# Altium schematic symbol library Schematiclib.SchLib: 91 symbols
Pins are listed as number, name and electrical type; pins without a type are passive.

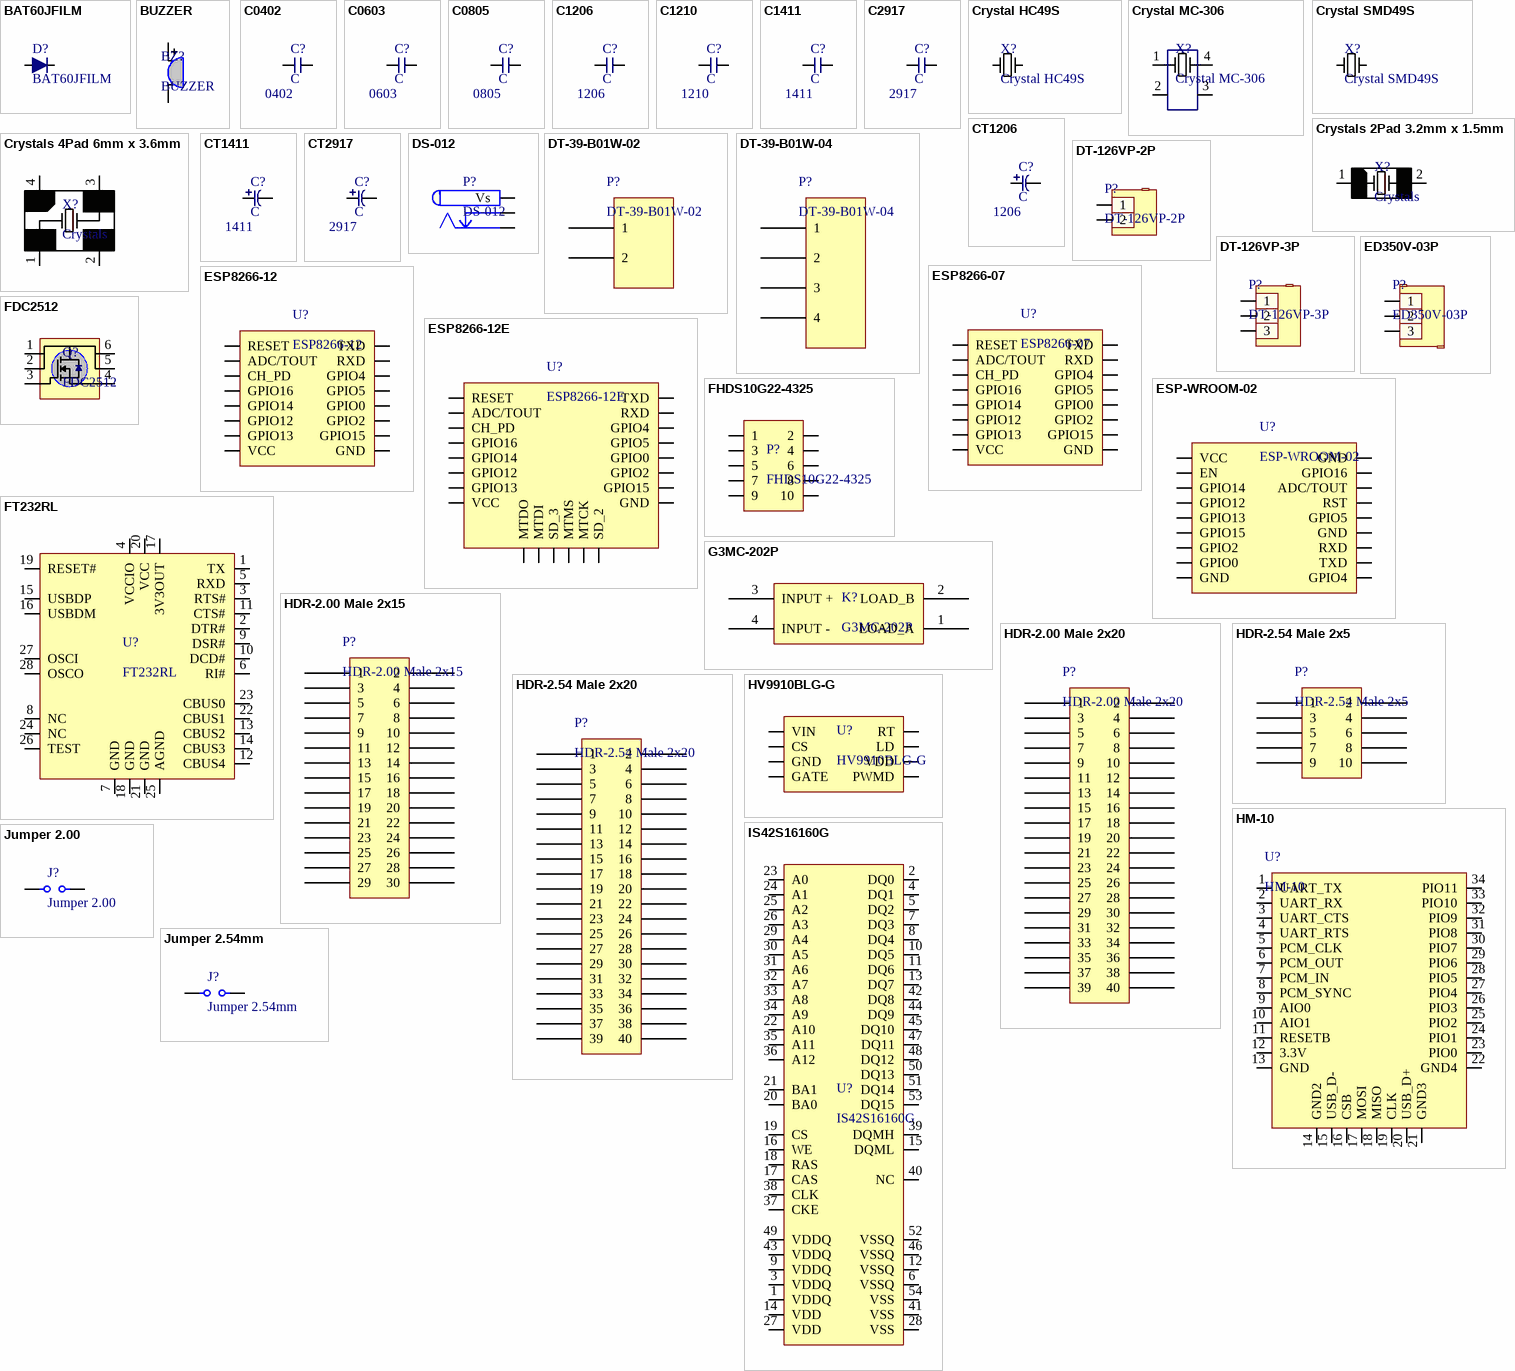
[diagram p0: symbols BAT60JFILM to Jumper 2.54mm]

## BAT60JFILM
designator D?
footprint SOD323
pins: 1, 2

## BUZZER
designator BZ?
footprint BUZZER
pins: 1, 2

## C0402
designator C?, comment C
footprint Chip 0402C
pins: 1, 2
text: 0402

## C0603
designator C?, comment C
footprint Chip 0603C
pins: 1, 2
text: 0603

## C0805
designator C?, comment C
footprint Chip 0805C
pins: 1, 2
text: 0805

## C1206
designator C?, comment C
footprint Chip 1206C
pins: 1, 2
text: 1206

## C1210
designator C?, comment C
footprint Chip 1210C
pins: 1, 2
text: 1210

## C1411
designator C?, comment C
footprint Chip 1411
pins: 1, 2
text: 1411

## C2917
designator C?, comment C
footprint Chip 2917
pins: 1, 2
text: 2917

## Crystal HC49S
designator X?
footprint HC-49S
pins: 1, 2

## Crystal MC-306
designator X?
footprint MC-306
pins: 1, 2, 3, 4

## Crystal SMD49S
designator X?
footprint SMD-49S
pins: 1, 2

## Crystals 2Pad 3.2mm x 1.5mm
designator X?, comment Crystals
Crystals 2 Pad 3.2mm x 1.5mm
footprint 2P3.2mmx1.5mm (Crystals 2Pad 3.2mm x 1.5mm)
pins: 1, 2

## Crystals 4Pad 6mm x 3.6mm
designator X?, comment Crystals
Crystals 4 Pad 6mm x 3.6mm
footprint 4P6mmx3.6mm (Crystals 4Pad 6mm x 3.6mm)
pins: 1, 2, 3, 4

## CT1206
designator C?, comment C
footprint Chip Tan 1206
pins: 1, 2
text: 1206

## CT1411
designator C?, comment C
footprint Chip Tan 1411
pins: 1, 2
text: 1411

## CT2917
designator C?, comment C
footprint Chip Tan 2917
pins: 1, 2
text: 2917

## DS-012
designator P?
DC Jack
footprint DS-012
pins: 0 Vs, 1 GND 1, 2 GND 2

## DT-39-B01W-02
designator P?
Terminal Block Barrier Type 2Pins,  8.25mm, 20A
footprint DT-39-B01W-02
pins: 1, 2

## DT-39-B01W-04
designator P?
Terminal Block Barrier Type 4Pins,  8.25mm, 20A
footprint DT-39-B01W-04
pins: 1, 2, 3, 4

## DT-126VP-2P
designator P?
Screw terminal block 2 Pin, 5.00mm, 8A, 300V
footprint DT-126VP-2P
pins: 1, 2

## DT-126VP-3P
designator P?
Screw terminal block 3 Pin, 5.00mm, 8A, 300V
footprint DT-126VP-3P
pins: 1, 2, 3

## ED350V-03P
designator P?
Terminal Block 3 Pins 3.50mm Mini PCB 300V/10A
footprint ED350V-03P (Terminal Block 3 Pins Mini PCB 300V/10A Wire protector)
pins: 1, 2, 3

## ESP8266-07
designator U?
footprint ESP8266-07
pins: 1 RESET, 2 ADC/TOUT, 3 CH_PD, 4 GPIO16, 5 GPIO14, 6 GPIO12, 7 GPIO13, 8 VCC, 9 GND, 10 GPIO15, 11 GPIO2, 12 GPIO0, 13 GPIO5, 14 GPIO4, 15 RXD, 16 TXD

## ESP8266-12
designator U?
footprint ESP8266-12
pins: 1 RESET, 2 ADC/TOUT, 3 CH_PD, 4 GPIO16, 5 GPIO14, 6 GPIO12, 7 GPIO13, 8 VCC, 9 GND, 10 GPIO15, 11 GPIO2, 12 GPIO0, 13 GPIO5, 14 GPIO4, 15 RXD, 16 TXD

## ESP8266-12E
designator U?
footprint ESP8266-12E
pins: 1 RESET, 2 ADC/TOUT, 3 CH_PD, 4 GPIO16, 5 GPIO14, 6 GPIO12, 7 GPIO13, 8 VCC, 9 GND, 10 GPIO15, 11 GPIO2, 12 GPIO0, 13 GPIO5, 14 GPIO4, 15 RXD, 16 TXD, 17 MTDO, 18 MTDI, 19 SD_3, 20 MTMS, 21 MTCK, 22 SD_2

## ESP-WROOM-02
designator U?
footprint ESP-WROOM-02
pins: 1 VCC, 2 EN, 3 GPIO14, 4 GPIO12, 5 GPIO13, 6 GPIO15, 7 GPIO2, 8 GPIO0, 9 GND, 10 GPIO4, 11 TXD, 12 RXD, 13 GND, 14 GPIO5, 15 RST, 16 ADC/TOUT, 17 GPIO16, 18 GND

## FDC2512
designator Q?
footprint SOT-6
pins: 1 B, 2 C, 3 E, 4, 5, 6

## FHDS10G22-4325
designator P?
Female Header, 2x5 Pin, Straight, 2.00mm
footprint FHDS10G22-4325 (2.00mm 2x5 PINS, FEMALE)
pins: 1, 2, 3, 4, 5, 6, 7, 8, 9, 10

## FT232RL
designator U?
footprint SSOP-28
pins: 1 TX, 2 DTR#, 3 RTS#, 4 VCCIO, 5 RXD, 6 RI#, 7 GND, 8 NC, 9 DSR#, 10 DCD#, 11 CTS#, 12 CBUS4, 13 CBUS2, 14 CBUS3, 15 USBDP, 16 USBDM, 17 3V3OUT, 18 GND, 19 RESET#, 20 VCC, 21 GND, 22 CBUS1, 23 CBUS0, 24 NC, 25 AGND, 26 TEST, 27 OSCI, 28 OSCO

## G3MC-202P
designator K?
G3MC-202P Solid State Relay, Phototriac Isolation, 100 to 240 VAC, 50/60 Hz, 0.1 to 2 A; Vendor: OMRON
footprint G3MC-202P
pins: 1 LOAD_A, 2 LOAD_B, 3 INPUT +, 4 INPUT -

## HDR-2.00 Male 2x15
designator P?
HDR 2.00mm Male 2x15
footprint HDR-2.00 Male 2x15
footprint HDR-2.00 Male 2x15 B
pins: 1, 2, 3, 4, 5, 6, 7, 8, 9, 10, 11, 12, 13, 14, 15, 16, 17, 18, 19, 20, 21, 22, 23, 24, 25, 26, 27, 28, 29, 30

## HDR-2.00 Male 2x20
designator P?
HDR 2.00mm Male 2x20
footprint HDR-2.00 Male 2x20
footprint HDR-2.00 Male 2x20 B
pins: 1, 2, 3, 4, 5, 6, 7, 8, 9, 10, 11, 12, 13, 14, 15, 16, 17, 18, 19, 20, 21, 22, 23, 24, 25, 26, 27, 28, 29, 30, 31, 32, 33, 34, 35, 36, 37, 38, 39, 40

## HDR-2.54 Male 2x5
designator P?
DUAL ROW STRAIGHT TYPE 2*5 PINS
footprint HDR-2.54 Male 2x5
pins: 1, 2, 3, 4, 5, 6, 7, 8, 9, 10

## HDR-2.54 Male 2x20
designator P?
DUAL ROW STRAIGHT TYPE 2*20 PINS
footprint HDR-2.54 Male 2x20
pins: 1, 2, 3, 4, 5, 6, 7, 8, 9, 10, 11, 12, 13, 14, 15, 16, 17, 18, 19, 20, 21, 22, 23, 24, 25, 26, 27, 28, 29, 30, 31, 32, 33, 34, 35, 36, 37, 38, 39, 40

## HM-10
designator U?
Bluetooth V4.0 HM-10 BLE Module
footprint HM-10
pins: 1 UART_TX, 2 UART_RX, 3 UART_CTS, 4 UART_RTS, 5 PCM_CLK, 6 PCM_OUT, 7 PCM_IN, 8 PCM_SYNC, 9 AIO0, 10 AIO1, 11 RESETB, 12 3.3V, 13 GND, 14 GND2, 15 USB_D-, 16 CSB, 17 MOSI, 18 MISO, 19 CLK, 20 USB_D+, 21 GND3, 22 GND4, 23 PIO0, 24 PIO1, 25 PIO2, 26 PIO3, 27 PIO4, 28 PIO5, 29 PIO6, 30 PIO7, 31 PIO8, 32 PIO9, 33 PIO10, 34 PIO11

## HV9910BLG-G
designator U?
Universal High Brightness LED Driver
footprint 8-Lead SOIC
pins: 1 VIN, 2 CS, 3 GND, 4 GATE, 5 PWMD, 6 VDD, 7 LD, 8 RT

## IS42S16160G
designator U?
4M x16x4 Banks, 256Mb Synchronous DRAM
footprint TSOP-2
pins: 1 VDDQ, 2 DQ0, 3 VDDQ, 4 DQ1, 5 DQ2, 6 VSSQ, 7 DQ3, 8 DQ4, 9 VDDQ, 10 DQ5, 11 DQ6, 12 VSSQ, 13 DQ7, 14 VDD, 15 DQML, 16 WE, 17 CAS, 18 RAS, 19 CS, 20 BA0, 21 BA1, 22 A10, 23 A0, 24 A1, 25 A2, 26 A3, 27 VDD, 28 VSS, 29 A4, 30 A5, 31 A6, 32 A7, 33 A8, 34 A9, 35 A11, 36 A12, 37 CKE, 38 CLK, 39 DQMH, 40 NC, 41 VSS, 42 DQ8, 43 VDDQ, 44 DQ9, 45 DQ10, 46 VSSQ, 47 DQ11, 48 DQ12, 49 VDDQ, 50 DQ13, 51 DQ14, 52 VSSQ, 53 DQ15, 54 VSS

## Jumper 2.00
designator J?
Jumper 2.54mm
footprint HDR-2.00 Male 1x2
pins: 1, 2

## Jumper 2.54mm
designator J?
footprint HDR-2.54 Male 1x2
pins: 1, 2

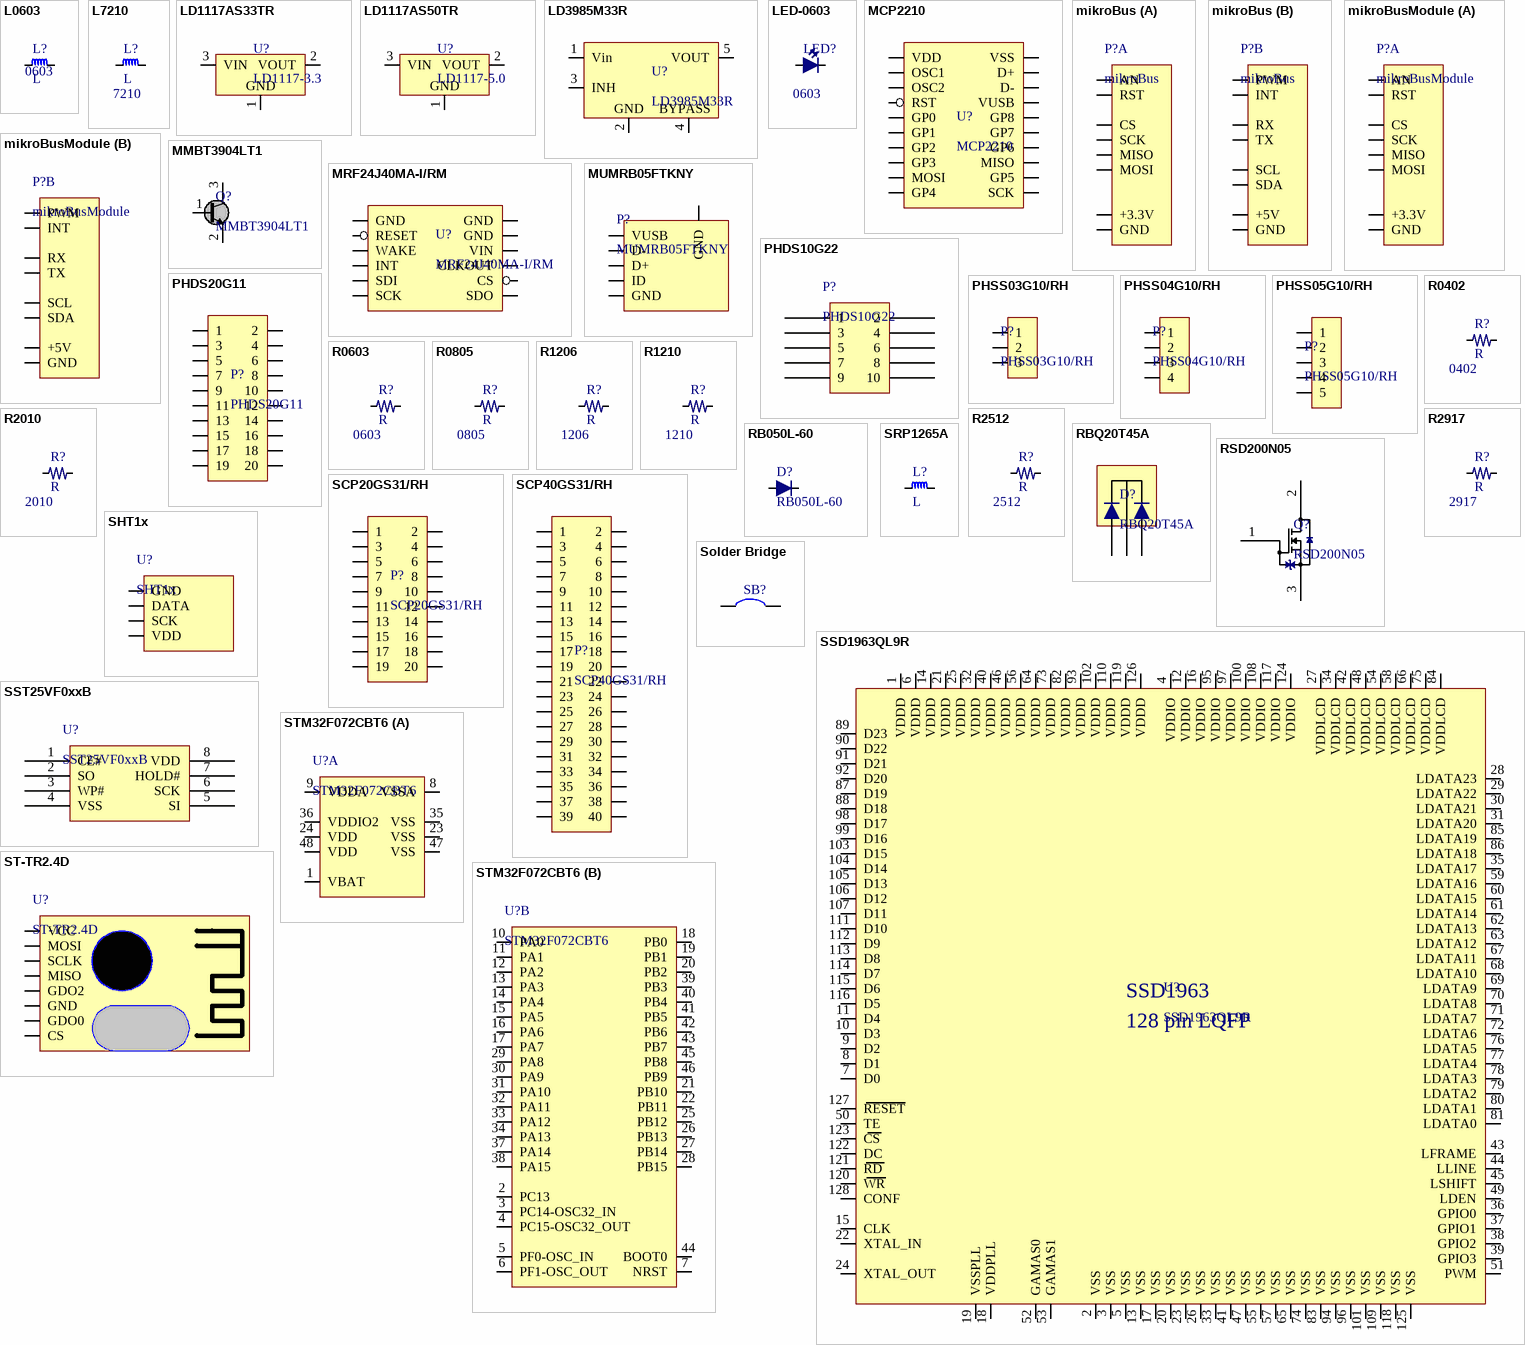
[diagram p1: symbols L0603 to STM32F072CBT6]

## L0603
designator L?, comment L
Chip Inductors
footprint Chip 0603
pins: 1, 2
text: 0603

## L7210
designator L?, comment L
HIGH POWER INDUCTOR
footprint L7210
pins: 1, 2
text: 7210

## LD1117AS33TR
designator U?, comment LD1117-3.3
Positive Fixed Voltage Regulator LDO 3.3V/1A
footprint SOT-223
pins: 1 GND, 2 VOUT, 3 VIN

## LD1117AS50TR
designator U?, comment LD1117-5.0
Positive Fixed Voltage Regulator LDO 5.0V/1A
footprint SOT-223
pins: 1 GND, 2 VOUT, 3 VIN

## LD3985M33R
designator U?
footprint SOT23-5L
pins: 1 Vin, 2 GND, 3 INH, 4 BYPASS, 5 VOUT

## LED-0603
designator LED?, comment LED  (value not drawn)
footprint CHIP LED 0603
pins: 1, 2
text: 0603

## MCP2210
designator U?
footprint 20-Lead SOIC
footprint 20-Lead SSOP
pins: 1 VDD, 2 OSC1, 3 OSC2, 4 RST, 5 GP0, 6 GP1, 7 GP2, 8 GP3, 9 MOSI, 10 GP4, 11 SCK, 12 GP5, 13 MISO, 14 GP6, 15 GP7, 16 GP8, 17 VUSB, 18 D-, 19 D+, 20 VSS

## mikroBus
designator P?
mikroBus Connector
footprint mikroBus - Host
part A pins: 1 AN, 2 RST, 3 CS, 4 SCK, 5 MISO, 6 MOSI, 7 +3.3V, 8 GND
part B pins: 9 GND, 10 +5V, 11 SDA, 12 SCL, 13 TX, 14 RX, 15 INT, 16 PWM

## mikroBusModule
designator P?
mikroBus Connector
footprint mikroBus - Module
part A pins: 1 AN, 2 RST, 3 CS, 4 SCK, 5 MISO, 6 MOSI, 7 +3.3V, 8 GND
part B pins: 9 GND, 10 +5V, 11 SDA, 12 SCL, 13 TX, 14 RX, 15 INT, 16 PWM

## MMBT3904LT1
designator Q?
General Purpose Transistor NPN 40V/0.2A
footprint SOT-23
pins: 1 B, 2 E, 3 C

## MRF24J40MA-I/RM
designator U?
footprint MRF24J40MA
pins: 1 GND, 2 RESET, 3 WAKE, 4 INT, 5 SDI, 6 SCK, 7 SDO, 8 CS, 9 CLKOUT, 10 VIN, 11 GND, 12 GND

## MUMRB05FTKNY
designator P?
Mini USB 5 pins, Female B type, R/A SMT type
footprint MUMRB05FTKNY
pins: 0 GND, 1 VUSB, 2 D-, 3 D+, 4 ID, 5 GND

## PHDS10G22
designator P?
PIN HEADER CONNECTOR DOUBLE ROW 20PINS  PITCH 2.00MM STRAIGHT TYPE
footprint PHDS10G22
pins: 1, 2, 3, 4, 5, 6, 7, 8, 9, 10

## PHDS20G11
designator P?
PIN HEADER DUAL ROW STRAIGHT TYPE 20 PINS, PITCH 2.54mm.STRAIGHT TYPE
footprint PHDS20G11
pins: 1, 2, 3, 4, 5, 6, 7, 8, 9, 10, 11, 12, 13, 14, 15, 16, 17, 18, 19, 20

## PHSS03G10/RH
designator P?
footprint PHSS03G10/RH
pins: 1, 2, 3

## PHSS04G10/RH
designator P?
footprint PHSS04G10/RH
pins: 1, 2, 3, 4

## PHSS05G10/RH
designator P?
footprint PHSS05G10/RH
pins: 1, 2, 3, 4, 5

## R0402
designator R?, comment R
footprint Chip 0402R
pins: 1, 2
text: 0402

## R0603
designator R?, comment R
footprint Chip 0603R
pins: 1, 2
text: 0603

## R0805
designator R?, comment R
footprint Chip 0805R
pins: 1, 2
text: 0805

## R1206
designator R?, comment R
footprint Chip 1206R
pins: 1, 2
text: 1206

## R1210
designator R?, comment R
footprint Chip 1210R
pins: 1, 2
text: 1210

## R2010
designator R?, comment R
footprint Chip 2010
pins: 1, 2
text: 2010

## R2512
designator R?, comment R
footprint Chip 2512
pins: 1, 2
text: 2512

## R2917
designator R?, comment R
footprint Chip 2917
pins: 1, 2
text: 2917

## RB050L-60
designator D?
footprint DO-214
pins: 1, 2

## RBQ20T45A
designator D?
Schottky Barrier Diode, 45V, 20A, Dual - Common Cathode; Vendor: ROHM
footprint TO-220
pins: 1 A, 2 CC, 3 A

## RSD200N05
designator Q?
Silicon N-channel MOSFET, 45V, 20A, Fast switching speed; Vendor: ROHM
footprint TO-252
pins: 1 Gate, 2 Drain, 3 Source

## SCP20GS31/RH
designator P?
footprint SCP20GS31/RH
pins: 1, 2, 3, 4, 5, 6, 7, 8, 9, 10, 11, 12, 13, 14, 15, 16, 17, 18, 19, 20

## SCP40GS31/RH
designator P?
footprint SCP40GS31/RH
pins: 1, 2, 3, 4, 5, 6, 7, 8, 9, 10, 11, 12, 13, 14, 15, 16, 17, 18, 19, 20, 21, 22, 23, 24, 25, 26, 27, 28, 29, 30, 31, 32, 33, 34, 35, 36, 37, 38, 39, 40

## SHT1x
designator U?
footprint SHT1x
pins: 1 GND, 2 DATA, 3 SCK, 4 VDD

## Solder Bridge
designator SB?  (value not drawn)
footprint Solder Bridge
pins: 1, 2

## SRP1265A
designator L?, comment L
SRP1265A Series - Shielded Power Inductors; Vendor: BOURNS
footprint SRP1265A
pins: 1, 2

## SSD1963QL9R
designator U?
LCD Display Controller
footprint LQFP-128
pins: 1 VDDD, 2 VSS, 3 VSS, 4 VDDIO, 5 VSS, 6 VDDD, 7 D0, 8 D1, 9 D2, 10 D3, 11 D4, 12 VDDIO, 13 VSS, 14 VDDD, 15 CLK, 16 VDDIO, 17 VSS, 18 VDDPLL, 19 VSSPLL, 20 VSS, 21 VDDD, 22 XTAL_IN, 23 VSS, 24 XTAL_OUT, 25 VDDD, 26 VSS, 27 VDDLCD, 28 LDATA23, 29 LDATA22, 30 LDATA21, 31 LDATA20, 32 VDDD, 33 VSS, 34 VDDLCD, 35 LDATA17, 36 GPIO0, 37 GPIO1, 38 GPIO2, 39 GPIO3, 40 VDDD, 41 VSS, 42 VDDLCD, 43 LFRAME, 44 LLINE, 45 LSHIFT, 46 VDDD, 47 VSS, 48 VDDLCD, 49 LDEN, 50 TE, 51 PWM, 52 GAMAS0, 53 GAMAS1, 54 VDDLCD, 55 VSS, 56 VDDD, 57 VSS, 58 VDDLCD, 59 LDATA16, 60 LDATA15, 61 LDATA14, 62 LDATA13, 63 LDATA12, 64 VDDD, 65 VSS, 66 VDDLCD, 67 LDATA11, 68 LDATA10, 69 LDATA9, 70 LDATA8, 71 LDATA7, 72 LDATA6, 73 VDDD, 74 VSS, 75 VDDLCD, 76 LDATA5, 77 LDATA4, 78 LDATA3, 79 LDATA2, 80 LDATA1, 81 LDATA0, 82 VDDD, 83 VSS, 84 VDDLCD, 85 LDATA19, 86 LDATA18, 87 D19, 88 D18, 89 D23, 90 D22, 91 D21, 92 D20, 93 VDDD, 94 VSS, 95 VDDIO, 96 VSS, 97 VDDIO, 98 D17, 99 D16, 100 VDDIO, 101 VSS, 102 VDDD, 103 D15, 104 D14, 105 D13, 106 D12, 107 D11, 108 VDDIO, 109 VSS, 110 VDDD, 111 D10, 112 D9, 113 D8, 114 D7, 115 D6, 116 D5, 117 VDDIO, 118 VSS, 119 VDDD, 120 WR, 121 RD, 122 DC, 123 CS, 124 VDDIO, 125 VSS, 126 VDDD, 127 RESET, 128 CONF
text: SSD1963; 128 pin LQFP

## SST25VF0xxB
designator U?
SST's 25 series SPI Serial Flash; Vendor: Microchip
footprint 8-Lead SOIC
pins: 1 CE#, 2 SO, 3 WP#, 4 VSS, 5 SI, 6 SCK, 7 HOLD#, 8 VDD

## ST-TR2.4D
designator U?
FSK 2.4GHz FSK/MSK/ASK/OOK TRANSCEIVER MODULE
footprint ST-TR2.4D (FSK 2.4GHz FSK/MSK/ASK/OOK TRANSCEIVER MODULE)
pins: 1 VCC, 2 MOSI, 3 SCLK, 4 MISO, 5 GDO2, 6 GND, 7 GDO0, 8 CS

## STM32F072CBT6
designator U?
ARM 32-bit Cortex-M0 CPU LQFP48 7x7 mm
footprint LQFP-48
part A pins: 1 VBAT, 8 VSSA, 9 VDDA, 23 VSS, 24 VDD, 35 VSS, 36 VDDIO2, 47 VSS, 48 VDD
part B pins: 2 PC13, 3 PC14-OSC32_IN, 4 PC15-OSC32_OUT, 5 PF0-OSC_IN, 6 PF1-OSC_OUT, 7 NRST, 10 PA0, 11 PA1, 12 PA2, 13 PA3, 14 PA4, 15 PA5, 16 PA6, 17 PA7, 18 PB0, 19 PB1, 20 PB2, 21 PB10, 22 PB11, 25 PB12, 26 PB13, 27 PB14, 28 PB15, 29 PA8, 30 PA9, 31 PA10, 32 PA11, 33 PA12, 34 PA13, 37 PA14, 38 PA15, 39 PB3, 40 PB4, 41 PB5, 42 PB6, 43 PB7, 44 BOOT0, 45 PB8, 46 PB9

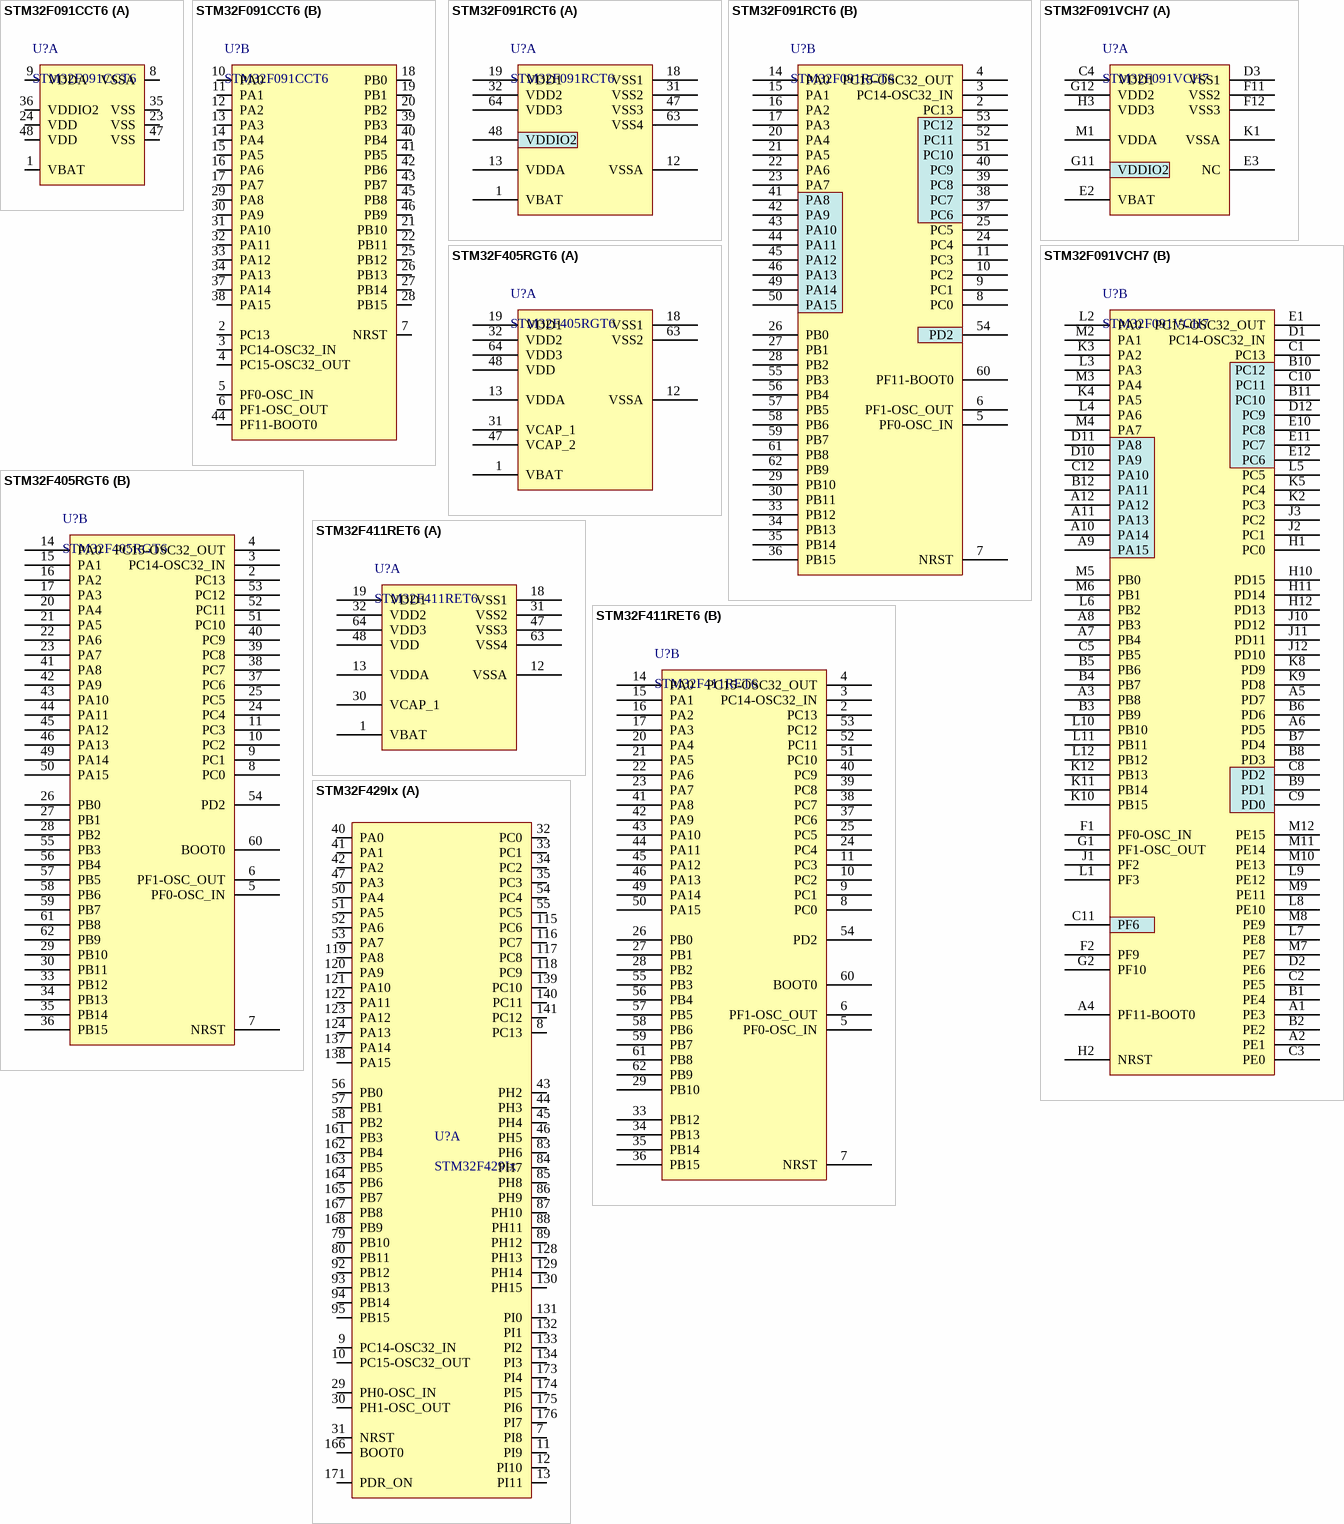
[diagram p2: symbols STM32F091CCT6 to STM32F429Ix]

## STM32F091CCT6
designator U?
ARM 32-bit Cortex-M0 CPU LQFP48 7x7 mm
footprint LQFP-48
part A pins: 1 VBAT, 8 VSSA, 9 VDDA, 23 VSS, 24 VDD, 35 VSS, 36 VDDIO2, 47 VSS, 48 VDD
part B pins: 2 PC13, 3 PC14-OSC32_IN, 4 PC15-OSC32_OUT, 5 PF0-OSC_IN, 6 PF1-OSC_OUT, 7 NRST, 10 PA0, 11 PA1, 12 PA2, 13 PA3, 14 PA4, 15 PA5, 16 PA6, 17 PA7, 18 PB0, 19 PB1, 20 PB2, 21 PB10, 22 PB11, 25 PB12, 26 PB13, 27 PB14, 28 PB15, 29 PA8, 30 PA9, 31 PA10, 32 PA11, 33 PA12, 34 PA13, 37 PA14, 38 PA15, 39 PB3, 40 PB4, 41 PB5, 42 PB6, 43 PB7, 44 PF11-BOOT0, 45 PB8, 46 PB9

## STM32F091RCT6
designator U?
ARM Cortex M0, 32bit, 48MHz, Flash 256kB, RAM 32kB, LQFP-64; Vendor: STMicroelectronics
footprint LQFP-64
part A pins: 1 VBAT, 12 VSSA, 13 VDDA, 18 VSS1, 19 VDD1, 31 VSS2, 32 VDD2, 47 VSS3, 48 VDDIO2, 63 VSS4, 64 VDD3
part B pins: 2 PC13, 3 PC14-OSC32_IN, 4 PC15-OSC32_OUT, 5 PF0-OSC_IN, 6 PF1-OSC_OUT, 7 NRST, 8 PC0, 9 PC1, 10 PC2, 11 PC3, 14 PA0, 15 PA1, 16 PA2, 17 PA3, 20 PA4, 21 PA5, 22 PA6, 23 PA7, 24 PC4, 25 PC5, 26 PB0, 27 PB1, 28 PB2, 29 PB10, 30 PB11, 33 PB12, 34 PB13, 35 PB14, 36 PB15, 37 PC6, 38 PC7, 39 PC8, 40 PC9, 41 PA8, 42 PA9, 43 PA10, 44 PA11, 45 PA12, 46 PA13, 49 PA14, 50 PA15, 51 PC10, 52 PC11, 53 PC12, 54 PD2, 55 PB3, 56 PB4, 57 PB5, 58 PB6, 59 PB7, 60 PF11-BOOT0, 61 PB8, 62 PB9

## STM32F091VCH7
designator U?
footprint UFBGA100
part A pins: C4 VDD1, D3 VSS1, E2 VBAT, E3 NC, F11 VSS2, F12 VSS3, G11 VDDIO2, G12 VDD2, H3 VDD3, K1 VSSA, M1 VDDA
part B pins: A1 PE3, A2 PE1, A3 PB8, A4 PF11-BOOT0, A5 PD7, A6 PD5, A7 PB4, A8 PB3, A9 PA15, A10 PA14, A11 PA13, A12 PA12, B1 PE4, B2 PE2, B3 PB9, B4 PB7, B5 PB6, B6 PD6, B7 PD4, B8 PD3, B9 PD1, B10 PC12, B11 PC10, B12 PA11, C1 PC13, C2 PE5, C3 PE0, C5 PB5, C8 PD2, C9 PD0, C10 PC11, C11 PF6, C12 PA10, D1 PC14-OSC32_IN, D2 PE6, D10 PA9, D11 PA8, D12 PC9, E1 PC15-OSC32_OUT, E10 PC8, E11 PC7, E12 PC6, F1 PF0-OSC_IN, F2 PF9, G1 PF1-OSC_OUT, G2 PF10, H1 PC0, H2 NRST, H10 PD15, H11 PD14, H12 PD13, J1 PF2, J2 PC1, J3 PC2, J10 PD12, J11 PD11, J12 PD10, K2 PC3, K3 PA2, K4 PA5, K5 PC4, K8 PD9, K9 PD8, K10 PB15, K11 PB14, K12 PB13, L1 PF3, L2 PA0, L3 PA3, L4 PA6, L5 PC5, L6 PB2, L7 PE8, L8 PE10, L9 PE12, L10 PB10, L11 PB11, L12 PB12, M2 PA1, M3 PA4, M4 PA7, M5 PB0, M6 PB1, M7 PE7, M8 PE9, M9 PE11, M10 PE13, M11 PE14, M12 PE15

## STM32F405RGT6
designator U?
ARM Cortex M4, 32bit, MCU+FPU, 168MHz, Flash 1MB, RAM 192kB, LQFP-64; Vendor: STMicroelectronics
footprint LQFP-64
part A pins: 1 VBAT, 12 VSSA, 13 VDDA, 18 VSS1, 19 VDD1, 31 VCAP_1, 32 VDD2, 47 VCAP_2, 48 VDD, 63 VSS2, 64 VDD3
part B pins: 2 PC13, 3 PC14-OSC32_IN, 4 PC15-OSC32_OUT, 5 PF0-OSC_IN, 6 PF1-OSC_OUT, 7 NRST, 8 PC0, 9 PC1, 10 PC2, 11 PC3, 14 PA0, 15 PA1, 16 PA2, 17 PA3, 20 PA4, 21 PA5, 22 PA6, 23 PA7, 24 PC4, 25 PC5, 26 PB0, 27 PB1, 28 PB2, 29 PB10, 30 PB11, 33 PB12, 34 PB13, 35 PB14, 36 PB15, 37 PC6, 38 PC7, 39 PC8, 40 PC9, 41 PA8, 42 PA9, 43 PA10, 44 PA11, 45 PA12, 46 PA13, 49 PA14, 50 PA15, 51 PC10, 52 PC11, 53 PC12, 54 PD2, 55 PB3, 56 PB4, 57 PB5, 58 PB6, 59 PB7, 60 BOOT0, 61 PB8, 62 PB9

## STM32F411RET6
designator U?
ARM Cortex M4, 32bit, MCU+FPU, 100MHz, Flash 512kB, RAM 128kB, LQFP-64; Vendor: STMicroelectronics
footprint LQFP-64
part A pins: 1 VBAT, 12 VSSA, 13 VDDA, 18 VSS1, 19 VDD1, 30 VCAP_1, 31 VSS2, 32 VDD2, 47 VSS3, 48 VDD, 63 VSS4, 64 VDD3
part B pins: 2 PC13, 3 PC14-OSC32_IN, 4 PC15-OSC32_OUT, 5 PF0-OSC_IN, 6 PF1-OSC_OUT, 7 NRST, 8 PC0, 9 PC1, 10 PC2, 11 PC3, 14 PA0, 15 PA1, 16 PA2, 17 PA3, 20 PA4, 21 PA5, 22 PA6, 23 PA7, 24 PC4, 25 PC5, 26 PB0, 27 PB1, 28 PB2, 29 PB10, 33 PB12, 34 PB13, 35 PB14, 36 PB15, 37 PC6, 38 PC7, 39 PC8, 40 PC9, 41 PA8, 42 PA9, 43 PA10, 44 PA11, 45 PA12, 46 PA13, 49 PA14, 50 PA15, 51 PC10, 52 PC11, 53 PC12, 54 PD2, 55 PB3, 56 PB4, 57 PB5, 58 PB6, 59 PB7, 60 BOOT0, 61 PB8, 62 PB9

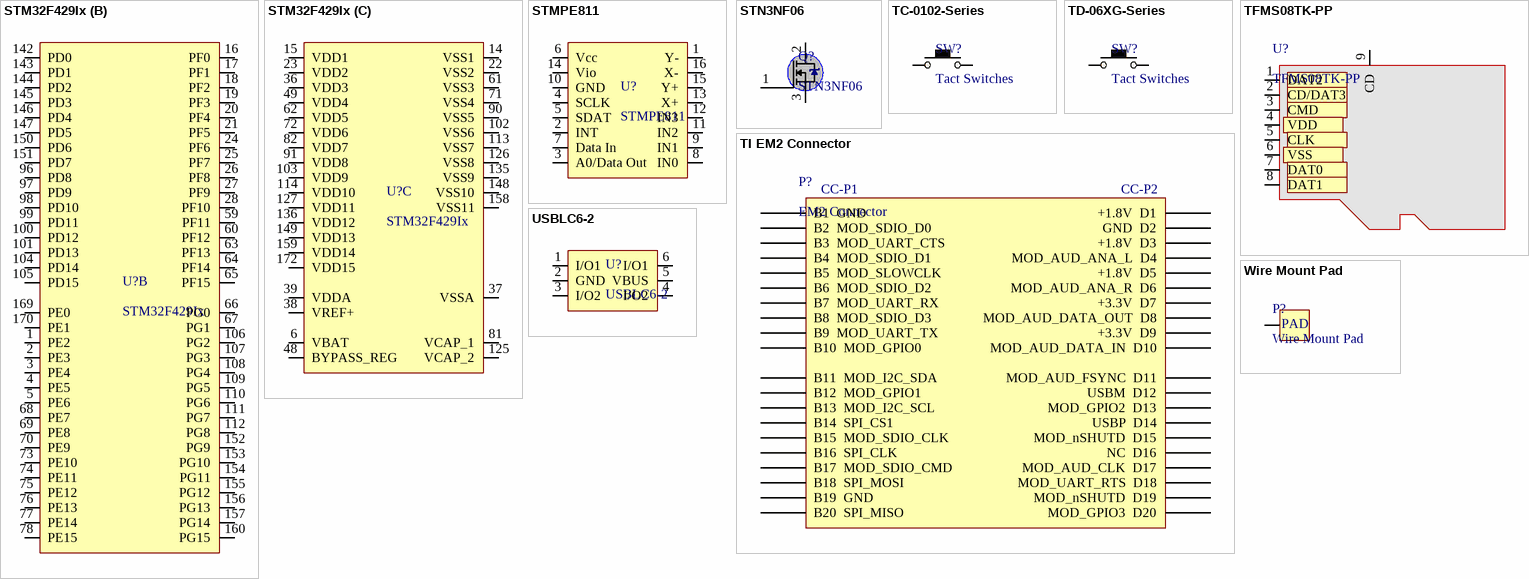
[diagram p3: symbols STM32F429Ix to Wire Mount Pad]

## STM32F429Ix
designator U?
ARM Cortex-M4 32b MCU+FPU, 225DMIPS, up to 2MB Flash/256+4KB RAM, USB  OTG HS/FS, Ethernet, 17 TIMs, 3 ADCs, 20 comm. interfaces, camera & LCD-TFT
footprint LQFP-176
part A pins: 7 PI8, 8 PC13, 9 PC14-OSC32_IN, 10 PC15-OSC32_OUT, 11 PI9, 12 PI10, 13 PI11, 29 PH0-OSC_IN, 30 PH1-OSC_OUT, 31 NRST, 32 PC0, 33 PC1, 34 PC2, 35 PC3, 40 PA0, 41 PA1, 42 PA2, 43 PH2, 44 PH3, 45 PH4, 46 PH5, 47 PA3, 50 PA4, 51 PA5, 52 PA6, 53 PA7, 54 PC4, 55 PC5, 56 PB0, 57 PB1, 58 PB2, 79 PB10, 80 PB11, 83 PH6, 84 PH7, 85 PH8, 86 PH9, 87 PH10, 88 PH11, 89 PH12, 92 PB12, 93 PB13, 94 PB14, 95 PB15, 115 PC6, 116 PC7, 117 PC8, 118 PC9, 119 PA8, 120 PA9, 121 PA10, 122 PA11, 123 PA12, 124 PA13, 128 PH13, 129 PH14, 130 PH15, 131 PI0, 132 PI1, 133 PI2, 134 PI3, 137 PA14, 138 PA15, 139 PC10, 140 PC11, 141 PC12, 161 PB3, 162 PB4, 163 PB5, 164 PB6, 165 PB7, 166 BOOT0, 167 PB8, 168 PB9, 171 PDR_ON, 173 PI4, 174 PI5, 175 PI6, 176 PI7
part B pins: 1 PE2, 2 PE3, 3 PE4, 4 PE5, 5 PE6, 16 PF0, 17 PF1, 18 PF2, 19 PF3, 20 PF4, 21 PF5, 24 PF6, 25 PF7, 26 PF8, 27 PF9, 28 PF10, 59 PF11, 60 PF12, 63 PF13, 64 PF14, 65 PF15, 66 PG0, 67 PG1, 68 PE7, 69 PE8, 70 PE9, 73 PE10, 74 PE11, 75 PE12, 76 PE13, 77 PE14, 78 PE15, 96 PD8, 97 PD9, 98 PD10, 99 PD11, 100 PD12, 101 PD13, 104 PD14, 105 PD15, 106 PG2, 107 PG3, 108 PG4, 109 PG5, 110 PG6, 111 PG7, 112 PG8, 142 PD0, 143 PD1, 144 PD2, 145 PD3, 146 PD4, 147 PD5, 150 PD6, 151 PD7, 152 PG9, 153 PG10, 154 PG11, 155 PG12, 156 PG13, 157 PG14, 160 PG15, 169 PE0, 170 PE1
part C pins: 6 VBAT, 14 VSS1, 15 VDD1, 22 VSS2, 23 VDD2, 36 VDD3, 37 VSSA, 38 VREF+, 39 VDDA, 48 BYPASS_REG, 49 VDD4, 61 VSS3, 62 VDD5, 71 VSS4, 72 VDD6, 81 VCAP_1, 82 VDD7, 90 VSS5, 91 VDD8, 102 VSS6, 103 VDD9, 113 VSS7, 114 VDD10, 125 VCAP_2, 126 VSS8, 127 VDD11, 135 VSS9, 136 VDD12, 148 VSS10, 149 VDD13, 158 VSS11, 159 VDD14, 172 VDD15

## STMPE811
designator U?
8-bit port expander with advanced touchscreen controller
footprint QFN16L
pins: 1 Y-, 2 INT, 3 A0/Data Out, 4 SCLK, 5 SDAT, 6 Vcc, 7 Data In, 8 IN0, 9 IN1, 10 GND, 11 IN2, 12 IN3, 13 X+, 14 Vio, 15 Y+, 16 X-

## STN3NF06
designator Q?
footprint SOT-223
pins: 1 B, 2 C, 3 E

## TC-0102-Series
designator SW?, comment Tact Switches
Tact Switches 6x6mm, Through Hole
footprint TC-0102-Series
pins: 1, 2

## TD-06XG-Series
designator SW?, comment Tact Switches
Tact Switches 6x6mm, Surface Mount
footprint TD-06XG-Series
pins: 1, 2

## TFMS08TK-PP
designator U?
Micro SD Card Socket
footprint TFMS08TK-PP
pins: 1 DAT2, 2 CD/DAT3, 3 CMD, 4 VDD, 5 CLK, 6 VSS, 7 DAT0, 8 DAT1, 9 CD

## TI EM2 Connector
designator P?, comment EM2 Connector
TI EM2 Connector
footprint TI EM2
pins: 1 B1  GND, 2 B2  MOD_SDIO_D0, 3 B3  MOD_UART_CTS, 4 B4  MOD_SDIO_D1, 5 B5  MOD_SLOWCLK, 6 B6  MOD_SDIO_D2, 7 B7  MOD_UART_RX, 8 B8  MOD_SDIO_D3, 9 B9  MOD_UART_TX, 10 B10  MOD_GPIO0, 11 B11  MOD_I2C_SDA, 12 B12  MOD_GPIO1, 13 B13  MOD_I2C_SCL, 14 B14  SPI_CS1, 15 B15  MOD_SDIO_CLK, 16 B16  SPI_CLK, 17 B17  MOD_SDIO_CMD, 18 B18  SPI_MOSI, 19 B19  GND, 20 B20  SPI_MISO, 21 +1.8V  D1, 22 GND  D2, 23 +1.8V  D3, 24 MOD_AUD_ANA_L  D4, 25 +1.8V  D5, 26 MOD_AUD_ANA_R  D6, 27 +3.3V  D7, 28 MOD_AUD_DATA_OUT  D8, 29 +3.3V  D9, 30 MOD_AUD_DATA_IN  D10, 31 MOD_AUD_FSYNC  D11, 32 USBM  D12, 33 MOD_GPIO2  D13, 34 USBP  D14, 35 MOD_nSHUTD  D15, 36 NC  D16, 37 MOD_AUD_CLK  D17, 38 MOD_UART_RTS  D18, 39 MOD_nSHUTD  D19, 40 MOD_GPIO3  D20
text: CC-P1; CC-P2

## USBLC6-2
designator U?
Very low capacitance ESD protection
footprint SOT23-6L
pins: 1 I/O1, 2 GND, 3 I/O2, 4 I/O2, 5 VBUS, 6 I/O1

## Wire Mount Pad
designator P?
footprint Wire Mount Pad
pins: 0
text: PAD